# Altium integrated library L-53GD.IntLib: 1 symbol
Pins are listed as number, name and electrical type; pins without a type are passive.

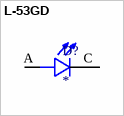
[diagram p0: symbol L-53GD]

## L-53GD
designator D?
LED 5mm Green 568nm 20mcd/10mA 60Â°; MF: Kingbright; MP: L-53GD; Value: *; Package: CDIP-28; Check_prices: https://www.snapeda.com/parts/L-53GD/Kingbright/view-part/?ref=eda; Price: None; SnapEDA_Link: https://www.snapeda.com/parts/L-53GD/Kingbright/view-part/?ref=snap; Availability: Unavailable
footprint LEDRD254W50D500H1060
pins: A, C